# EAGLE library part BNO055 (library GTA04b7)
Bosch BNO055 Intelligent 9-axis absolute orientation sensor
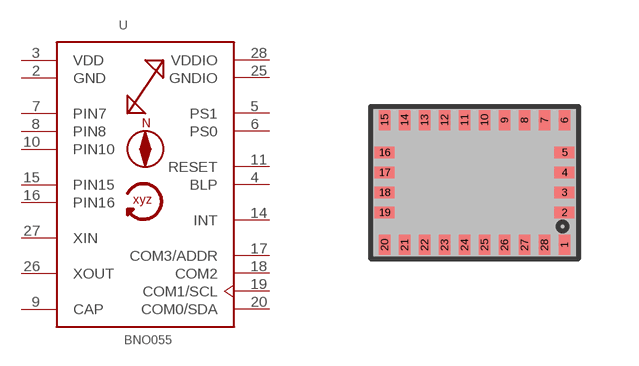
[diagram p6: symbol with the pads of BNO050; footprint BNO050]

Designator prefix -

## BNO055  [BNO050]
2  GND  pwr
3  VDD  pwr
4  BLP  out
5  PS1  in
6  PS0  in
7  PIN7  in
8  PIN8  in
9  CAP  pas
10  PIN10  in
11  RESET  in
14  INT  out
15  PIN15  in
16  PIN16  in
17  COM3/ADDR
18  COM2  in
19  COM1/SCL  in
20  COM0/SDA
25  GNDIO  pwr
26  XOUT  out
27  XIN  in
28  VDDIO  pwr

## Footprint BNO050 (pad centres in mm)
Bosch Sensortec BNO050 LGA package
smd 0.28 x 0.5: 1 2.25,-1.56; 6 2.25,1.56; 7 1.75,1.56; 8 1.25,1.56; 9 0.75,1.56; 10 0.25,1.56; 11 -0.25,1.56; 12 -0.75,1.56; 13 -1.25,1.56; 14 -1.75,1.56; 15 -2.25,1.56; 20 -2.25,-1.56; 21 -1.75,-1.56; 22 -1.25,-1.56; 23 -0.75,-1.56; 24 -0.25,-1.56; 25 0.25,-1.56; 26 0.75,-1.56; 27 1.25,-1.56; 28 1.75,-1.56
smd 0.5 x 0.28: 2 2.25,-0.75; 3 2.25,-0.25; 4 2.25,0.25; 5 2.25,0.75; 16 -2.25,0.75; 17 -2.25,0.25; 18 -2.25,-0.25; 19 -2.25,-0.75